# EAGLE library part WE-RJ45_7499010121A (library WE-RJ45_LAN)
WE-RJ45 LAN Transformer Characteristics RJ45 Connector with integrated transformer / common mode choke Power over Ethernet up to 50 Watt and speeds up to 10 Gbit/s Available in SMD, THT and THT with USB Compliant with standards: IEEE 802.3u, IEEE 802.3ab, IEEE 802.3af, IEEE 802.3at, IEEE 802.3an and upcoming IEE 802.3bt Applications Suitable for industrial temperatures from –40 °C up to +85 °C Compatible to Industrial Ethernet systems like EtherCAT or Profinet Compliant with most IC’s for Ethernet applications such as Microchip, Texas Instruments, Broadcom, Linear Technology Hubs, Routers, Switches, IP cameras, IoT applications <https://www.we-online.com/components/media/o35731v209%20Family-WE-RJ45LAN-7499xxxxxx.jpg> Details see: www.we-online.com/components/products/WE-LAN-RJ45 <www.we-online.com/catalog/WE-LAN-RJ45/?utm_source=eagle_model&utm_medium=description_link&utm_campaign=eisos_eagle> Updated by Ella Wu 2019-08-05 2019 (C) Wurth Elektronik
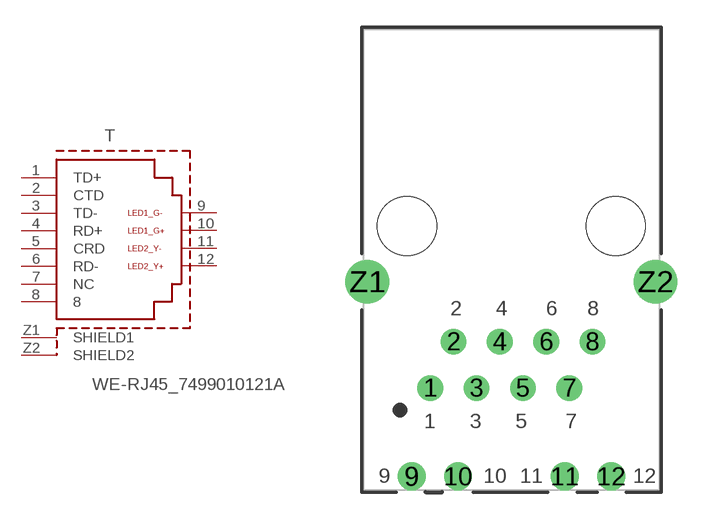
[diagram p33: symbol with the pads of 7499010121A; footprint 7499010121A]

Designator prefix T

## WE-RJ45_7499010121A (DATA-RATE: 100BASE-TX; DATASHEET-URL: https://www.we-online.com/redexpert/spec/7499010121A?ae; IMPROVED-CMRR: No; LED: yellow-green; MOUNT: THT; OPERATING-TEMPERATURE: -40 °C up to +85 °C; PART-NUMBER: 7499010121A; PHY-CHIP-MODE: current & voltage; POE: non-PoE; PORTS: 1x1; SHIELD-TABS: No; TAB: Up; USB: No; VALUE: 7499010121A)  [7499010121A]
1  TD+  pas
2  CTD  pas
3  TD-  pas
4  RD+  pas
5  CRD  pas
6  RD-  pas
7  NC  pas
8  8  pas
9  LED1_G-  pas
10  LED1_G+  pas
11  LED2_Y-  pas
12  LED2_Y+  pas
Z1  SHIELD1  pas
Z2  SHIELD2  pas

## Footprint 7499010121A (pad centres in mm)
WE-RJ45 LAN Transformer 10/100 Base-T
drill 0.9: 1 -4.445,-8.89; 2 -3.175,-6.35; 3 -1.905,-8.89; 4 -0.635,-6.35; 5 0.635,-8.89; 6 1.905,-6.35; 7 3.175,-8.89; 8 4.445,-6.35
drill 1.02: 9 -5.465,-13.72; 10 -2.925,-13.72; 11 2.925,-13.72; 12 5.465,-13.72
drill 1.6: Z1 -7.9,-3.05; Z2 7.9,-3.05
hole 3.25 at -5.715,0
hole 3.25 at 5.715,0